# Altium schematic symbol library 4GBJ406F.SCHLIB: 1 symbol
Pins are listed as number, name and electrical type; pins without a type are passive.

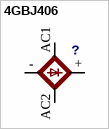
[diagram p0: symbol 4GBJ406]

## 4GBJ406
designator ?
footprint FB100
pins: +, -, AC1, AC2